# Altium schematic symbol library SMS-255F.SchLib: 1 symbol
Pins are listed as number, name and electrical type; pins without a type are passive.

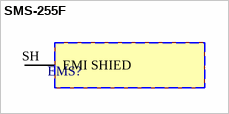
[diagram p0: symbol SMS-255F]

## SMS-255F
designator EMS?
RF Shield Frame 0.750 (19.05mm) X 0.750 (19.05mm) - Surface Mount; MF: Leader Tech; MP: SMS-255F; SnapEDA_Link: https://www.snapeda.com/parts/SMS-255F/Leader+Tech+Inc./view-part/?ref=snap; Package: None; Value: *; Check_prices: https://www.snapeda.com/parts/SMS-255F/Leader+Tech+Inc./view-part/?ref=eda
footprint LEADERTECH_SMS-255F
pins: SH EMI SHIED 